# Altium footprint library ESP32.PcbLib: 13 footprints
Each footprint in its own frame and in the unit in brackets; x right, y up, seen from the top. Pads: shape width x height; smd on the part's side, far side on the other; paste and mask are expansions set on the pad; w line width, h text height; cw(c..) or ccw(c..) is an arc to the next point about the centre after c.
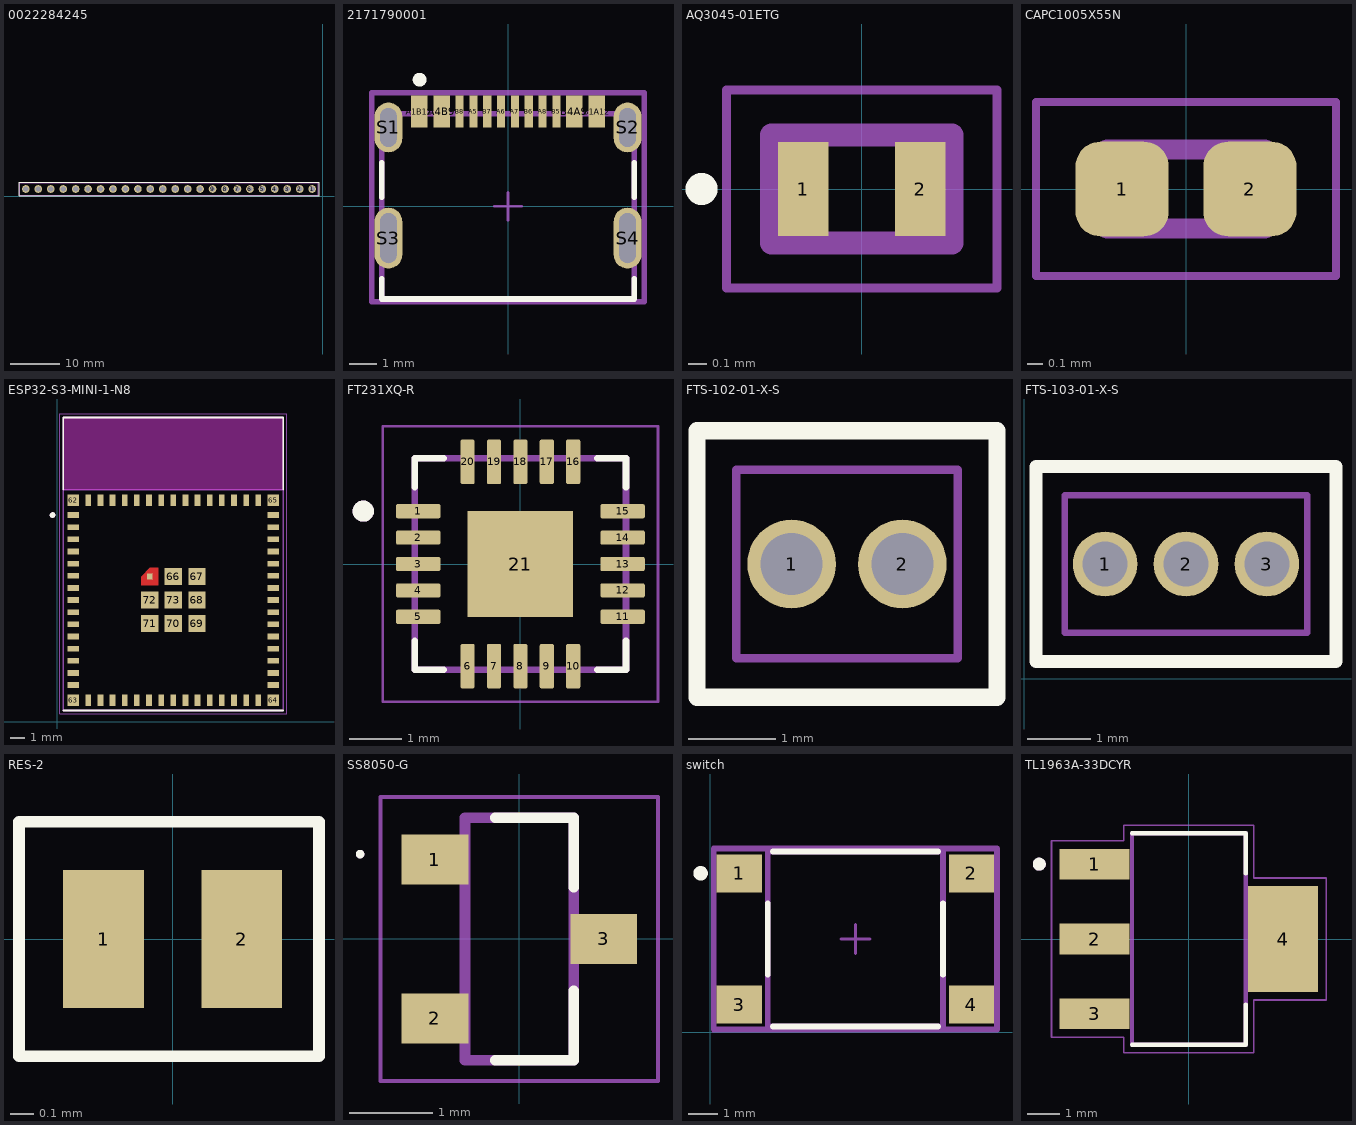
[diagram p0: the footprints below, top view; thin cyan lines are the x and y axes]

## 0022284245 [mil]
pads (24):
  round 62 hole 42: 1(-84,59) 2(-184,59) 3(-284,59) 4(-384,59) 5(-484,59) 6(-584,59) 7(-684,59) 8(-784,59) 9(-884,59) 10(-984,59) 11(-1084,59) 12(-1184,59) 13(-1284,59) 14(-1384,59) 15(-1484,59) 16(-1584,59) 17(-1684,59) 18(-1784,59) 19(-1884,59) 20(-1984,59) 21(-2084,59) 22(-2184,59) 23(-2284,59) 24(-2384,59)
Top Overlay:
  lines w6: -2439,5 -2439,113 -29,113 -29,5 -2439,5
Top 3D Body:
  lines w6: -2434,10 -2434,108 -34,108 -34,10 -2434,10
3D body "022284245.stp": height 340, standoff -165, extent -2438,15 -38,113

## 2171790001 [mm]
pads (16):
  rect 0.6x1.15 smd paste+0 mask+0: A1B12(-3.2,3.425) A4B9(-2.4,3.425) B1A12(3.2,3.425) B4A9(2.4,3.425)
  rect 0.3x1.15 smd paste+0 mask+0: A5(-1.25,3.425) A6(-0.25,3.425) A7(0.25,3.425) A8(1.25,3.425) B5(1.75,3.425) B6(0.75,3.425) B7(-0.75,3.425) B8(-1.75,3.425)
  rrect100% 1x1.8 hole 1.4 slot 0.6 at 0 deg paste-2539.97 mask+0: S1(-4.32,2.85) S2(4.32,2.85)
  rrect100% 1x2.2 hole 1.8 slot 0.6 at 0 deg paste-2539.97 mask+0: S3(-4.32,-1.15) S4(4.32,-1.15)
Top Overlay:
  circle w0.25: c-3.195,4.575 r0.125
  lines w0.2: -4.57,-2.625 -4.57,-3.35 4.57,-3.35 4.57,-2.625 ; -4.57,0.325 -4.57,1.575 ; 4.57,0.325 4.57,1.575
Top Assembly:
  lines w0.2: -4.92,-3.45 -4.92,4.1 4.92,4.1 4.92,-3.45 -4.92,-3.45
  text ".Designator" at 0,0.513 h1
Top 3D Body:
  lines w0.2: -4.57,-3.35 -4.57,3.35 4.57,3.35 4.57,-3.35 -4.57,-3.35
Top Courtyard:
  lines w0.2: -4.92,-3.45 -4.92,4.1 4.92,4.1 4.92,-3.45 -4.92,-3.45
Top Component Center:
  lines w0.1: -0.5,0 0.5,0 ; 0,-0.5 0,0.5
3D body "Conn_Molex_2171790001_eec.STEP": height 0.25, standoff 0, extent -4.92,-3.45 4.92,4.1

## AQ3045-01ETG [mm]
pads (2):
  rect 0.28x0.52 smd paste+0 mask+0.102: 1(-0.325,0) 2(0.325,0)
Top Overlay:
  circle w0.127: c-0.889,0 r0.025
Top 3D Body:
  circle w0.051: c-0.889,0 r0.025
  lines w0.127: -0.5,-0.3 0.5,-0.3 0.5,0.3 -0.5,0.3 -0.5,-0.3
Top Courtyard:
  lines w0.05: -0.75,-0.55 -0.75,0.55 0.75,0.55 0.75,-0.55 -0.75,-0.55
3D body "AQ3045-01ETG--3DModel-STEP-510211.STEP": height 0.55, standoff 0, extent -0.5,-0.3 0.5,0.3

## CAPC1005X55N [mm]
height 0.55
pads (2):
  rrect53% 0.59x0.6 smd: 1(-0.405,0) 2(0.405,0)
Top 3D Body:
  lines w0.127: -0.5,-0.25 -0.5,0.25 0.5,0.25 0.5,-0.25 -0.5,-0.25
Top Courtyard:
  lines w0.05: -0.95,-0.55 -0.95,0.55 0.95,0.55 0.95,-0.55 -0.95,-0.55
3D body "step_temp.STEP": height 0.55, standoff 0, extent -0.5,-0.25 0.5,0.25

## ESP32-S3-MINI-1-N8 [mm]
height 2.55
pads (73):
  rect 0.8x0.4 smd: 1(1.128,14.459) 2(1.128,13.609) 3(1.128,12.759) 4(1.128,11.909) 5(1.128,11.059) 6(1.128,10.209) 7(1.128,9.359) 8(1.128,8.509) 9(1.128,7.659) 10(1.128,6.809) 11(1.128,5.959) 12(1.128,5.109) 13(1.128,4.259) 14(1.128,3.409) 15(1.128,2.559) 31(15.128,2.559) 32(15.128,3.409) 33(15.128,4.259) 34(15.128,5.109) 35(15.128,5.959) 36(15.128,6.809) 37(15.128,7.659) 38(15.128,8.509) 39(15.128,9.359) 40(15.128,10.209) 41(15.128,11.059) 42(15.128,11.909) 43(15.128,12.759) 44(15.128,13.609) 45(15.128,14.459)
  rect 0.4x0.8 smd: 16(2.178,1.509) 17(3.028,1.509) 18(3.878,1.509) 19(4.728,1.509) 20(5.578,1.509) 21(6.428,1.509) 22(7.278,1.509) 23(8.128,1.509) 24(8.978,1.509) 25(9.828,1.509) 26(10.678,1.509) 27(11.528,1.509) 28(12.378,1.509) 29(13.228,1.509) 30(14.078,1.509) 46(14.078,15.509) 47(13.228,15.509) 48(12.378,15.509) 49(11.528,15.509) 50(10.678,15.509) 51(9.828,15.509) 52(8.978,15.509) 53(8.128,15.509) 54(7.278,15.509) 55(6.428,15.509) 56(5.578,15.509) 57(4.728,15.509) 58(3.878,15.509) 59(3.028,15.509) 60(2.178,15.509)
  rect 0.4x0.4 smd paste-1 mask+0: 61(6.478,10.159)
  rect 0.8x0.8 smd: 62(1.128,15.509) 63(1.128,1.509) 64(15.128,1.509) 65(15.128,15.509)
  rect 1.2x1.2 smd: 66(8.128,10.159) 67(9.778,10.159) 68(9.778,8.509) 69(9.778,6.859) 70(8.128,6.859) 71(6.478,6.859) 72(6.478,8.509) 73(8.128,8.509)
Top Layer:
  region: 7.078,9.559 5.878,9.559 5.878,10.159 6.478,10.759 7.078,10.759
Top Overlay:
  circle w0.2: c-0.322,14.459 r0.1
  lines w0.127: 0.428,0.784 15.828,0.784 ; 0.428,16.234 0.428,21.284 15.828,21.284 15.828,16.234
Top Paste:
  region: 7.078,9.559 5.878,9.559 5.878,10.159 6.478,10.759 7.078,10.759
Top Solder:
  region: 7.178,9.459 5.778,9.459 5.778,10.209 6.428,10.859 7.178,10.859
Keep-Out Layer:
  region: 15.828,16.234 0.428,16.234 0.428,21.284 15.828,21.284
  region: 15.828,16.234 0.428,16.234 0.428,21.284 15.828,21.284
Top 3D Body:
  circle w0.2: c-0.322,14.459 r0.1
  lines w0.127: 0.428,16.234 15.828,16.234 ; 0.428,16.234 0.428,21.284 15.828,21.284 15.828,16.234 ; 0.428,16.234 0.428,0.784 15.828,0.784 15.828,16.234
Top Courtyard:
  lines w0.05: 0.178,0.534 16.078,0.534 16.078,21.534 0.178,21.534 0.178,0.534
3D body "ESP32-S3-MINI-1-N8--3DModel-STEP-510211.STEP": height 2.55, standoff 0, extent 0.348,0.672 15.748,21.172

## FT231XQ-R [mm]
pads (21):
  rrect25% 0.84x0.27 smd: 1(-1.935,1) 2(-1.935,0.5) 3(-1.935,0) 4(-1.935,-0.5) 5(-1.935,-1) 11(1.935,-1) 12(1.935,-0.5) 13(1.935,0) 14(1.935,0.5) 15(1.935,1)
  rrect25% 0.27x0.84 smd: 6(-1,-1.935) 7(-0.5,-1.935) 8(0,-1.935) 9(0.5,-1.935) 10(1,-1.935) 16(1,1.935) 17(0.5,1.935) 18(0,1.935) 19(-0.5,1.935) 20(-1,1.935)
  rect 2x2 smd paste-0.37: 21(0,0)
Top Overlay:
  circle w0.2: c-2.975,1 r0.1
  lines w0.127: -2,-1.455 -2,-2 -1.455,-2 ; -2,1.455 -2,2 -1.455,2 ; 1.455,-2 2,-2 2,-1.455 ; 1.455,2 2,2 2,1.455
Top 3D Body:
  circle w0.2: c-2.975,1 r0.1
  lines w0.127: -2,-2 2,-2 2,2 -2,2 -2,-2
Top Courtyard:
  lines w0.05: -2.605,-2.605 2.605,-2.605 2.605,2.605 -2.605,2.605 -2.605,-2.605
3D body "FT231XQ-R--3DModel-STEP-56544.STEP": height 0.75, standoff -0.05, extent -2,-2 2,2

## FTS-102-01-X-S [mil]
pads (2):
  round 40 hole 27.95 mask+1.5: 1(60,75)
  round 40 hole 27.95 paste-99999 mask+1.5: 2(110,75)
Top Overlay:
  lines w7.87: 17.28,14.76 17.28,135.24 152.72,135.24 152.72,14.76 17.28,14.76
Top 3D Body:
  lines w3.94: 17.28,14.76 17.28,135.24 152.72,135.24 152.72,14.76 ; 35,32.48 35,117.52 85,117.52 135,117.52 135,32.48 85,32.48 35,32.48 ; 52.01,67.01 52.01,82.99 67.99,82.99 67.99,67.01 52.01,67.01 ; 102.01,67.01 117.99,67.01 117.99,82.99 102.01,82.99 102.01,67.01
3D body "FTS-102-01-F-S.stp": height 154, standoff -90, extent 35,30 135,115

## FTS-103-01-X-S [mil]
pads (3):
  round 40 hole 27.95 mask+2: 1(50,71) 2(100,71) 3(150,71)
Top Overlay:
  lines w7.87: 7.28,10.76 7.28,131.24 192.72,131.24 192.72,10.76 7.28,10.76
Top 3D Body:
  lines w3.94: 7.28,10.76 7.28,131.24 192.72,131.24 192.72,10.76 7.28,10.76 ; 25,28.48 25,113.52 75,113.52 125,113.52 175,113.52 175,28.48 125,28.48 75,28.48 25,28.48 ; 42.01,63.01 42.01,78.99 57.99,78.99 57.99,63.01 42.01,63.01 ; 92.01,63.01 92.01,78.99 107.99,78.99 107.99,63.01 92.01,63.01 ; 142.01,63.01 157.99,63.01 157.99,78.99 142.01,78.99 142.01,63.01
3D body "FTS-103-01-F-S.stp": height 154, standoff -90, extent 25,28.5 175,113.5

## PCBComponent_1 [mm]

## RES-2 [mm]
pads (2):
  rect 0.35x0.6 smd: 1(-0.3,0) 2(0.3,0)
Top Overlay:
  lines w0.05: -0.667,0.508 -0.667,0 -0.667,-0.508 0.635,-0.508 0.635,0.508 -0.66,0.508
3D body "RC0402FR-070RL.STEP": height 0.4, standoff 0, extent -0.5,-0.279 0.5,0.221

## SS8050-G [mm]
height 1.05
pads (3):
  rect 0.8x0.6 smd: 1(-1.01,0.95) 2(-1.01,-0.95) 3(1.01,0)
Top Overlay:
  circle w0.051: c-1.905,1.016 r0.025
  lines w0.127: -0.29,-1.45 0.65,-1.45 0.65,-0.62 ; -0.29,1.45 0.65,1.45 0.65,0.62
Top 3D Body:
  circle w0.051: c-1.905,1.016 r0.025
  lines w0.127: -0.65,-1.45 0.65,-1.45 0.65,1.45 -0.65,1.45 -0.65,-1.45
Top Courtyard:
  lines w0.05: -1.66,-1.7 -1.66,1.7 1.66,1.7 1.66,-1.7 -1.66,-1.7
3D body "SS8050-G--3DModel-STEP-1.STEP": height 1.14, standoff 0, extent -1.2,-1.448 1.2,1.448

## switch [mm]
pads (4):
  rect 1.55x1.3 smd paste+0 mask+0: 1(1.003,5.45) 2(8.953,5.45) 3(1.003,0.95) 4(8.953,0.95)
Top Overlay:
  circle w0.25: c-0.322,5.45 r0.125
  lines w0.2: 1.978,1.975 1.978,4.425 ; 2.153,0.2 7.803,0.2 ; 2.153,6.2 7.803,6.2 ; 7.978,1.975 7.978,4.425
Top Assembly:
  lines w0.2: 0.128,0.1 0.128,6.3 9.828,6.3 9.828,0.1 0.128,0.1
Top 3D Body:
  lines w0.2: 1.978,0.2 1.978,6.2 7.978,6.2 7.978,0.2 1.978,0.2
Top Courtyard:
  lines w0.2: 0.128,0.1 0.128,6.3 9.828,6.3 9.828,0.1 0.128,0.1
Top Component Center:
  lines w0.1: 4.478,3.2 5.478,3.2 ; 4.978,2.7 4.978,3.7
3D body "PTS645SM43SMTR92LFS.STEP": height 4.3, standoff 0, extent 0.555,0.175 9.555,6.175

## TL1963A-33DCYR [mm]
height 1.8
pads (4):
  rect 2.15x0.95 smd: 1(-2.9,2.3) 2(-2.9,0) 3(-2.9,-2.3)
  rect 2.15x3.25 smd: 4(2.9,0)
Top Overlay:
  circle w0.2: c-4.6,2.3 r0.1
  lines w0.127: -1.75,-3.25 1.75,-3.25 1.75,-2.01 ; -1.75,3.25 1.75,3.25 1.75,2.01
Top 3D Body:
  circle w0.2: c-4.6,2.3 r0.1
  lines w0.127: -1.75,-3.25 1.75,-3.25 1.75,3.25 -1.75,3.25 -1.75,-3.25
Top Courtyard:
  lines w0.05: -4.225,-3.025 -2,-3.025 -2,-3.5 2,-3.5 2,-1.875 4.225,-1.875 4.225,1.875 2,1.875 2,3.5 -2,3.5 -2,3.025 -4.225,3.025 -4.225,-3.025
3D body "step_temp.STEP": height 1.8, standoff 0, extent -3.499,-3.25 3.499,3.25